# Altium footprint library PTS645SH50SMTR92LFS.PcbLib: 1 footprints
Each footprint in its own frame and in the unit in brackets; x right, y up, seen from the top. Pads: shape width x height; smd on the part's side, far side on the other; paste and mask are expansions set on the pad; w line width, h text height; cw(c..) or ccw(c..) is an arc to the next point about the centre after c.
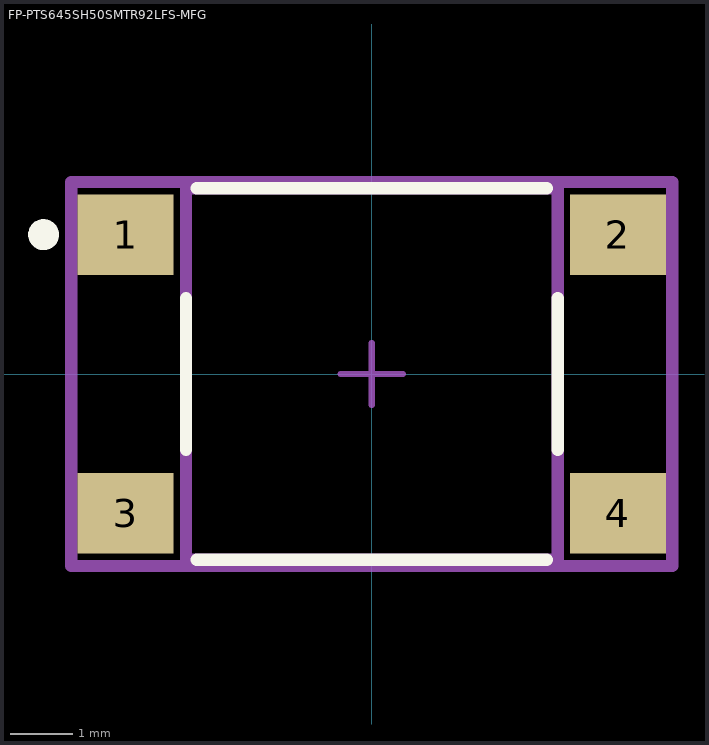
[diagram p0: the footprint, top view; thin cyan lines are the x and y axes]

## FP-PTS645SH50SMTR92LFS-MFG [mm]
pads (4):
  rect 1.55x1.3 smd paste+0 mask+0: 1(-3.975,2.25) 2(3.975,2.25) 3(-3.975,-2.25) 4(3.975,-2.25)
Top Overlay:
  circle w0.25: c-5.3,2.25 r0.125
  lines w0.2: -3,-1.225 -3,1.225 ; -2.825,-3 2.825,-3 ; -2.825,3 2.825,3 ; 3,-1.225 3,1.225
Top Assembly:
  lines w0.2: -4.85,-3.1 4.85,-3.1 4.85,3.1 -4.85,3.1 -4.85,-3.1
Top 3D Body:
  lines w0.2: -3,-3 3,-3 3,3 -3,3 -3,-3
Top Courtyard:
  lines w0.2: -4.85,-3.1 4.85,-3.1 4.85,3.1 -4.85,3.1 -4.85,-3.1
Top Component Center:
  lines w0.1: -0.5,0 0.5,0 ; 0,-0.5 0,0.5
3D body "User Library-PTS645SL43SMTR92-LFS.STEP": height 4.3, standoff 0, extent -4.5,-3 4.5,3